# EAGLE library part UPC8151TB (library renesas)
RF-AMP, LOW CURRENT
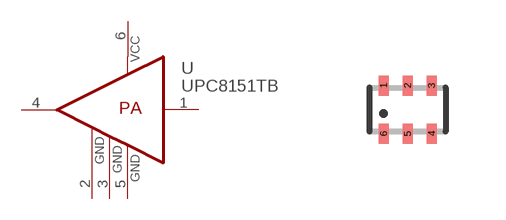
[diagram p2: symbol with the pads of MINIMOLD-6R; footprint MINIMOLD-6R]

Designator prefix U

## UPC8151TB  [MINIMOLD-6R]
1  IN  in
2  GND  pwr
3  GND  pwr
4  OUT  out
5  GND  pwr
6  VCC  pwr

## Footprint MINIMOLD-6R (pad centres in mm)
MINI-MOLD-6 REVERSE PIN ORDER
smd 0.25 x 0.5: 1 -0.6,0.6; 2 0,0.6; 3 0.6,0.6; 4 0.6,-0.6; 5 0,-0.6; 6 -0.6,-0.6